# EAGLE library part AS-ITM-00384 (library tinycircuits)
SENSOR CURRENT HALL 15.5A AC/DC
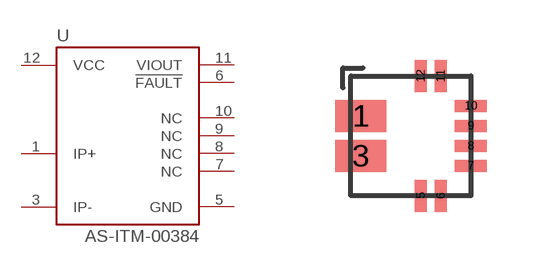
[diagram p156: symbol with the pads of QFN-EX-12; footprint QFN-EX-12]

Designator prefix U

## AS-ITM-00384 (PARTNO: AS-ITM-00384; VALUE: ACS711)  [QFN-EX-12]
1  IP+
3  IP-
5  GND
6  !FAULT
7  NC
8  NC
9  NC
10  NC
11  VIOUT
12  VCC

## Footprint QFN-EX-12 (pad centres in mm)
smd 1.27 x 0.8: 1 -1.25,0.5; 3 -1.25,-0.5
smd 0.3 x 0.8: 5 0.25,-1.5; 6 0.75,-1.5; 11 0.75,1.5; 12 0.25,1.5
smd 0.8 x 0.3: 7 1.5,-0.75; 8 1.5,-0.25; 9 1.5,0.25; 10 1.5,0.75